# Altium footprint library SM3113N.PcbLib: 1 footprints
Each footprint in its own frame and in the unit in brackets; x right, y up, seen from the top. Pads: shape width x height; smd on the part's side, far side on the other; paste and mask are expansions set on the pad; w line width, h text height; cw(c..) or ccw(c..) is an arc to the next point about the centre after c.
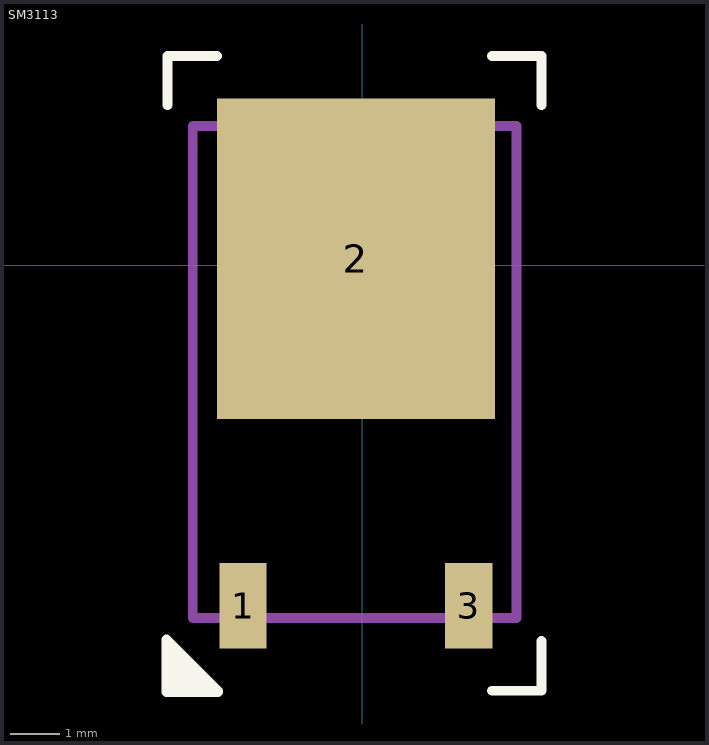
[diagram p0: the footprint, top view; thin cyan lines are the x and y axes]

## SM3113 [mm]
pads (3):
  rect 0.96x1.73 smd: 1(-2.412,-6.893) 3(2.158,-6.893)
  rect 5.63x6.49 smd paste-4: 2(-0.127,0.127)
Top Overlay:
  region: -3.962,-7.523 -3.962,-8.594 -2.892,-8.594
  lines w0.2: -3.937,3.237 -3.937,4.237 -2.937,4.237 ; -2.921,-8.632 -2.921,-8.619 ; 2.632,-8.615 3.632,-8.615 ; 2.632,4.237 3.632,4.237 3.632,3.237 ; 3.632,-8.607 3.632,-7.607 ; -2.921,-8.619 -3.962,-7.578 -3.962,-8.645 -2.921,-8.645 -2.921,-8.619
Top Paste:
  region: -0.682,0.842 -0.682,-0.588 -2.392,-0.588 -2.392,0.842
  region: -0.682,3.012 -0.682,1.582 -2.392,1.582 -2.392,3.012
  region: -0.682,-1.328 -0.682,-2.758 -2.392,-2.758 -2.392,-1.328
  region: 2.138,-1.328 2.138,-2.758 0.428,-2.758 0.428,-1.328
  region: 2.138,0.842 2.138,-0.588 0.428,-0.588 0.428,0.842
  region: 2.138,3.012 2.138,1.582 0.428,1.582 0.428,3.012
Mechanical 15:
  lines w0.2: -3.429,-7.142 3.124,-7.142 3.124,2.815 -3.429,2.815 -3.429,2.1 -3.429,-4.501 -3.429,-7.142
3D body "LM317AMDT.STEP": height 2.7, standoff -0.02, extent -3.397,-7.148 3.143,2.762